# Altium footprint library TQFN20-SPE-MAX3222E.PcbLib: 1 footprints
Each footprint in its own frame and in the unit in brackets; x right, y up, seen from the top. Pads: shape width x height; smd on the part's side, far side on the other; paste and mask are expansions set on the pad; w line width, h text height; cw(c..) or ccw(c..) is an arc to the next point about the centre after c.
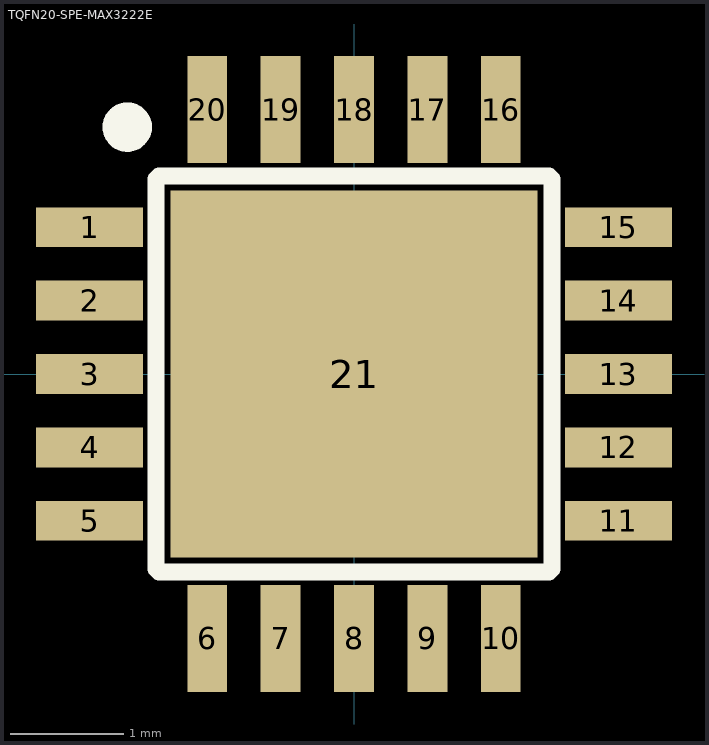
[diagram p0: the footprint, top view; thin cyan lines are the x and y axes]

## TQFN20-SPE-MAX3222E [mm]
pads (21):
  rect 0.95x0.35 smd mask+0: 1(-2.34,1.3) 2(-2.34,0.65) 3(-2.34,0) 4(-2.34,-0.65) 5(-2.34,-1.3) 11(2.34,-1.3) 12(2.34,-0.65) 13(2.34,0) 14(2.34,0.65) 15(2.34,1.3)
  rect 0.35x0.95 smd mask+0: 6(-1.3,-2.34) 7(-0.65,-2.34) 8(0,-2.34) 9(0.65,-2.34) 10(1.3,-2.34) 16(1.3,2.34) 17(0.65,2.34) 18(0,2.34) 19(-0.65,2.34) 20(-1.3,2.34)
  rect 3.25x3.25 smd paste-0.25 mask+0: 21(0,0)
Top Overlay:
  circle w0.254: c-2.007,2.184 r0.092
  lines w0.15: -1.753,-1.727 -1.753,1.727 ; -1.727,-1.753 1.727,-1.753 ; -1.727,1.753 1.727,1.753 ; 1.753,-1.727 1.753,1.727
3D body: height 0.86, standoff -0.04, extent -2.515,-2.489 2.505,2.531